# Altium schematic symbol library QUTMS_DeutschPCB.SchLib: 1 symbol
Pins are listed as number, name and electrical type; pins without a type are passive.

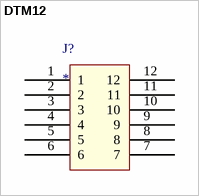
[diagram p0: symbol DTM12]

## DTM12
designator J?
footprint DTM13-12PA
pins: 1, 2, 3, 4, 5, 6, 7, 8, 9, 10, 11, 12